# EAGLE library part RP2040_M0+ (library RP2040_M0)
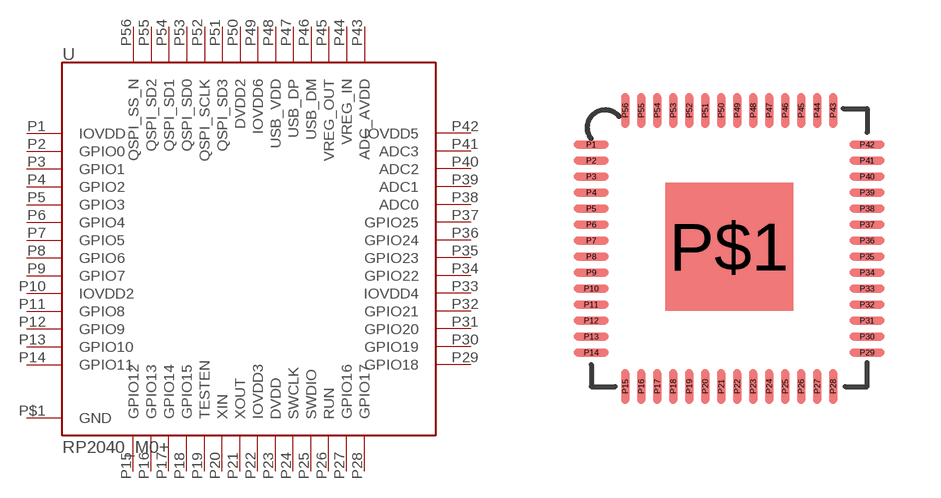
[diagram p0: symbol with the pads of QFN-56; footprint QFN-56]

Designator prefix -

## RP2040_M0+  [QFN-56]
P1  IOVDD
P2  GPIO0
P3  GPIO1
P4  GPIO2
P5  GPIO3
P6  GPIO4
P7  GPIO5
P8  GPIO6
P9  GPIO7
P10  IOVDD2
P11  GPIO8
P12  GPIO9
P13  GPIO10
P14  GPIO11
P15  GPIO12
P16  GPIO13
P17  GPIO14
P18  GPIO15
P19  TESTEN
P20  XIN
P21  XOUT
P22  IOVDD3
P23  DVDD
P24  SWCLK
P25  SWDIO
P26  RUN
P27  GPIO16
P28  GPIO17
P29  GPIO18
P30  GPIO19
P31  GPIO20
P32  GPIO21
P33  IOVDD4
P34  GPIO22
P35  GPIO23
P36  GPIO24
P37  GPIO25
P38  ADC0
P39  ADC1
P40  ADC2
P41  ADC3
P42  IOVDD5
P43  ADC_AVDD
P44  VREG_IN
P45  VREG_OUT
P46  USB_DM
P47  USB_DP
P48  USB_VDD
P49  IOVDD6
P50  DVDD2
P51  QSPI_SD3
P52  QSPI_SCLK
P53  QSPI_SD0
P54  QSPI_SD1
P55  QSPI_SD2
P56  QSPI_SS_N
P$1  GND

## Footprint QFN-56 (pad centres in mm)
smd 0.875 x 0.2: P1 -3.5,2.55; P2 -3.5,2.15; P3 -3.5,1.75; P4 -3.5,1.35; P5 -3.5,0.95; P6 -3.5,0.55; P7 -3.5,0.15; P8 -3.5,-0.25; P9 -3.5,-0.65; P10 -3.5,-1.05; P11 -3.5,-1.45; P12 -3.5,-1.85; P13 -3.5,-2.25; P14 -3.5,-2.65; P29 3.4,-2.65; P30 3.4,-2.25; P31 3.4,-1.85; P32 3.4,-1.45; P33 3.4,-1.05; P34 3.4,-0.65; P35 3.4,-0.25; P36 3.4,0.15; P37 3.4,0.55; P38 3.4,0.95; P39 3.4,1.35; P40 3.4,1.75; P41 3.4,2.15; P42 3.4,2.55
smd 0.2 x 0.875: P15 -2.65,-3.5; P16 -2.25,-3.5; P17 -1.85,-3.5; P18 -1.45,-3.5; P19 -1.05,-3.5; P20 -0.65,-3.5; P21 -0.25,-3.5; P22 0.15,-3.5; P23 0.55,-3.5; P24 0.95,-3.5; P25 1.35,-3.5; P26 1.75,-3.5; P27 2.15,-3.5; P28 2.55,-3.5; P43 2.55,3.4; P44 2.15,3.4; P45 1.75,3.4; P46 1.35,3.4; P47 0.95,3.4; P48 0.55,3.4; P49 0.15,3.4; P50 -0.25,3.4; P51 -0.65,3.4; P52 -1.05,3.4; P53 -1.45,3.4; P54 -1.85,3.4; P55 -2.25,3.4; P56 -2.65,3.4
smd 3.2 x 3.2: P$1 -0.05,0